# Altium footprint library test28jiao.PcbLib: 1 footprints
Each footprint in its own frame and in the unit in brackets; x right, y up, seen from the top. Pads: shape width x height; smd on the part's side, far side on the other; paste and mask are expansions set on the pad; w line width, h text height; cw(c..) or ccw(c..) is an arc to the next point about the centre after c.
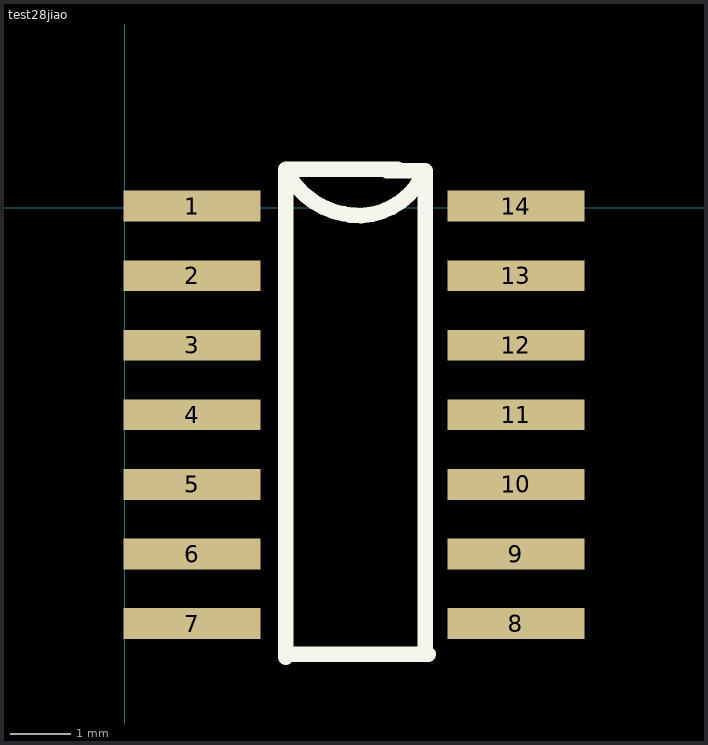
[diagram p0: the footprint, top view; thin cyan lines are the x and y axes]

## test28jiao [mm]
pads (14):
  rect 2.27x0.51 smd: 1(1.118,0.025) 2(1.118,-1.126) 3(1.118,-2.278) 4(1.118,-3.429) 5(1.118,-4.58) 6(1.118,-5.732) 7(1.118,-6.883) 8(6.477,-6.883) 9(6.477,-5.732) 10(6.477,-4.58) 11(6.477,-3.429) 12(6.477,-2.278) 13(6.477,-1.126) 14(6.477,0.025)
Top Overlay:
  lines w0.254: 3.734,-0.127 ccw(c3.861,1.067) 4.923,0.506 ; 3.811,-0.123 cw(c3.861,1.194) 2.667,0.635 ; 4.318,0.635 4.343,0.61 4.978,0.61 4.978,-7.341 5.029,-7.391 2.718,-7.391 2.667,-7.442 2.667,0.635 ; 4.521,0.635 2.667,0.635